# Altium footprint library LGA3X3X0.86-16L.PcbLib: 1 footprints
Each footprint in its own frame and in the unit in brackets; x right, y up, seen from the top. Pads: shape width x height; smd on the part's side, far side on the other; paste and mask are expansions set on the pad; w line width, h text height; cw(c..) or ccw(c..) is an arc to the next point about the centre after c.
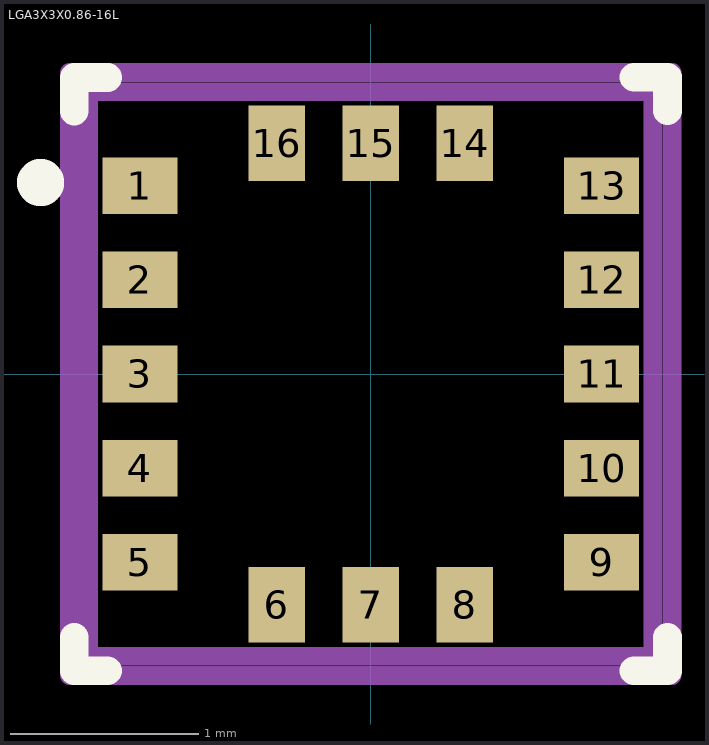
[diagram p0: the footprint, top view; thin cyan lines are the x and y axes]

## LGA3X3X0.86-16L [mm] "Pitch0.5mm Body 3x3mm High0.86mm"
height 0.86
pads (16):
  rect 0.4x0.3 smd: 1(-1.225,1) 2(-1.225,0.5) 3(-1.225,0) 4(-1.225,-0.5) 5(-1.225,-1) 9(1.225,-1) 10(1.225,-0.5) 11(1.225,0) 12(1.225,0.5) 13(1.225,1)
  rect 0.3x0.4 smd: 6(-0.5,-1.225) 7(0,-1.225) 8(0.5,-1.225) 14(0.5,1.225) 15(0,1.225) 16(-0.5,1.225)
Top Overlay:
  circle w0.2: c-1.753,1.016 r0.025
  lines w0.152: -1.575,-1.575 -1.397,-1.575 ; -1.574,-1.575 -1.574,-1.397 ; -1.574,1.396 -1.574,1.574 -1.396,1.574 ; 1.397,-1.575 1.575,-1.575 1.575,-1.397 ; 1.397,1.575 1.575,1.575 1.575,1.397
Mechanical 13:
  lines w0.1: -1.499,-1.499 0,-1.499 1.499,-1.499 1.499,0 1.499,1.499 0,1.499 -1.499,1.499 -1.499,0 -1.499,-1.499
Mechanical 15:
  lines w0.1: -1.6,-1.6 0,-1.6 1.6,-1.6 1.6,0 1.6,1.6 0,1.6 -1.6,1.6 -1.6,0 -1.6,-1.6
3D body: height 0.91, standoff -0.05, extent -1.5,-1.5 1.5,1.5